# EAGLE library part STM32F4-100 (library apbteam_stm32)
STM32F4, 100 pin package According to STM32F40x datasheet, almost compatible with STM32F4xx, STM32F2xx, some pins must be connected differently, see chapter 2.1.
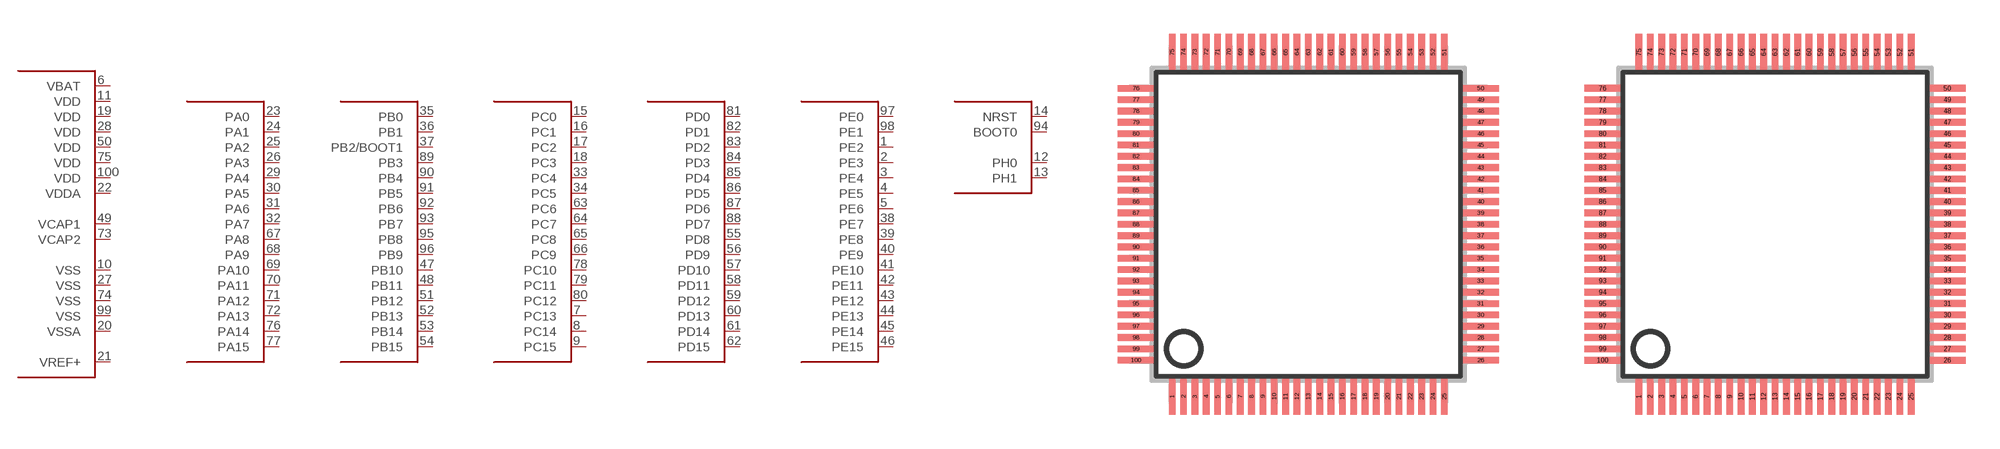
[diagram p1: symbol with the pads of SQFP-S-14X14-100-8MIL; footprints SQFP-S-14X14-100-8MIL, SQFP-S-14X14-100]

Designator prefix U; gates G$1=STM32-SUPPLY-100 G$2=STM32-PORTA G$3=STM32-PORTB G$4=STM32-PORTC G$5=STM32-PORTD G$6=STM32-PORTE G$7=STM32-MISC-100

## STM32F4-100-8MIL  [SQFP-S-14X14-100-8MIL]
1  G$6:PE2
2  G$6:PE3
3  G$6:PE4
4  G$6:PE5
5  G$6:PE6
6  G$1:VBAT  pwr
7  G$4:PC13
8  G$4:PC14
9  G$4:PC15
10  G$1:VSS  pwr
11  G$1:VDD  pwr
12  G$7:PH0
13  G$7:PH1
14  G$7:NRST
15  G$4:PC0
16  G$4:PC1
17  G$4:PC2
18  G$4:PC3
19  G$1:VDD  pwr
20  G$1:VSSA  pwr
21  G$1:VREF+  pas
22  G$1:VDDA  pwr
23  G$2:PA0
24  G$2:PA1
25  G$2:PA2
26  G$2:PA3
27  G$1:VSS  pwr
28  G$1:VDD  pwr
29  G$2:PA4
30  G$2:PA5
31  G$2:PA6
32  G$2:PA7
33  G$4:PC4
34  G$4:PC5
35  G$3:PB0
36  G$3:PB1
37  G$3:PB2/BOOT1
38  G$6:PE7
39  G$6:PE8
40  G$6:PE9
41  G$6:PE10
42  G$6:PE11
43  G$6:PE12
44  G$6:PE13
45  G$6:PE14
46  G$6:PE15
47  G$3:PB10
48  G$3:PB11
49  G$1:VCAP1  pas
50  G$1:VDD  pwr
51  G$3:PB12
52  G$3:PB13
53  G$3:PB14
54  G$3:PB15
55  G$5:PD8
56  G$5:PD9
57  G$5:PD10
58  G$5:PD11
59  G$5:PD12
60  G$5:PD13
61  G$5:PD14
62  G$5:PD15
63  G$4:PC6
64  G$4:PC7
65  G$4:PC8
66  G$4:PC9
67  G$2:PA8
68  G$2:PA9
69  G$2:PA10
70  G$2:PA11
71  G$2:PA12
72  G$2:PA13
73  G$1:VCAP2  pas
74  G$1:VSS  pwr
75  G$1:VDD  pwr
76  G$2:PA14
77  G$2:PA15
78  G$4:PC10
79  G$4:PC11
80  G$4:PC12
81  G$5:PD0
82  G$5:PD1
83  G$5:PD2
84  G$5:PD3
85  G$5:PD4
86  G$5:PD5
87  G$5:PD6
88  G$5:PD7
89  G$3:PB3
90  G$3:PB4
91  G$3:PB5
92  G$3:PB6
93  G$3:PB7
94  G$7:BOOT0
95  G$3:PB8
96  G$3:PB9
97  G$6:PE0
98  G$6:PE1
99  G$1:VSS  pwr
100  G$1:VDD  pwr

## STM32F4-100  [SQFP-S-14X14-100]
Pads as for SQFP-S-14X14-100-8MIL

## Footprint SQFP-S-14X14-100-8MIL (pad centres in mm)
QFP100 @8mils shrink quad flat pack, square, modified for 8 mil DRC.
smd 0.295 x 1.6: 1 -6,-7.6; 2 -5.5,-7.6; 3 -5,-7.6; 4 -4.5,-7.6; 5 -4,-7.6; 6 -3.5,-7.6; 7 -3,-7.6; 8 -2.5,-7.6; 9 -2,-7.6; 10 -1.5,-7.6; 11 -1,-7.6; 12 -0.5,-7.6; 13 0,-7.6; 14 0.5,-7.6; 15 1,-7.6; 16 1.5,-7.6; 17 2,-7.6; 18 2.5,-7.6; 19 3,-7.6; 20 3.5,-7.6; 21 4,-7.6; 22 4.5,-7.6; 23 5,-7.6; 24 5.5,-7.6; 25 6,-7.6; 51 6,7.6; 52 5.5,7.6; 53 5,7.6; 54 4.5,7.6; 55 4,7.6; 56 3.5,7.6; 57 3,7.6; 58 2.5,7.6; 59 2,7.6; 60 1.5,7.6; 61 1,7.6; 62 0.5,7.6; 63 0,7.6; 64 -0.5,7.6; 65 -1,7.6; 66 -1.5,7.6; 67 -2,7.6; 68 -2.5,7.6; 69 -3,7.6; 70 -3.5,7.6; 71 -4,7.6; 72 -4.5,7.6; 73 -5,7.6; 74 -5.5,7.6; 75 -6,7.6
smd 1.6 x 0.295: 26 7.6,-6; 27 7.6,-5.5; 28 7.6,-5; 29 7.6,-4.5; 30 7.6,-4; 31 7.6,-3.5; 32 7.6,-3; 33 7.6,-2.5; 34 7.6,-2; 35 7.6,-1.5; 36 7.6,-1; 37 7.6,-0.5; 38 7.6,0; 39 7.6,0.5; 40 7.6,1; 41 7.6,1.5; 42 7.6,2; 43 7.6,2.5; 44 7.6,3; 45 7.6,3.5; 46 7.6,4; 47 7.6,4.5; 48 7.6,5; 49 7.6,5.5; 50 7.6,6; 76 -7.6,6; 77 -7.6,5.5; 78 -7.6,5; 79 -7.6,4.5; 80 -7.6,4; 81 -7.6,3.5; 82 -7.6,3; 83 -7.6,2.5; 84 -7.6,2; 85 -7.6,1.5; 86 -7.6,1; 87 -7.6,0.5; 88 -7.6,0; 89 -7.6,-0.5; 90 -7.6,-1; 91 -7.6,-1.5; 92 -7.6,-2; 93 -7.6,-2.5; 94 -7.6,-3; 95 -7.6,-3.5; 96 -7.6,-4; 97 -7.6,-4.5; 98 -7.6,-5; 99 -7.6,-5.5; 100 -7.6,-6

## Footprint SQFP-S-14X14-100 (pad centres in mm)
QFP100 shrink quad flat pack, square
smd 0.3 x 1.6: 1 -6,-7.6; 2 -5.5,-7.6; 3 -5,-7.6; 4 -4.5,-7.6; 5 -4,-7.6; 6 -3.5,-7.6; 7 -3,-7.6; 8 -2.5,-7.6; 9 -2,-7.6; 10 -1.5,-7.6; 11 -1,-7.6; 12 -0.5,-7.6; 13 0,-7.6; 14 0.5,-7.6; 15 1,-7.6; 16 1.5,-7.6; 17 2,-7.6; 18 2.5,-7.6; 19 3,-7.6; 20 3.5,-7.6; 21 4,-7.6; 22 4.5,-7.6; 23 5,-7.6; 24 5.5,-7.6; 25 6,-7.6; 51 6,7.6; 52 5.5,7.6; 53 5,7.6; 54 4.5,7.6; 55 4,7.6; 56 3.5,7.6; 57 3,7.6; 58 2.5,7.6; 59 2,7.6; 60 1.5,7.6; 61 1,7.6; 62 0.5,7.6; 63 0,7.6; 64 -0.5,7.6; 65 -1,7.6; 66 -1.5,7.6; 67 -2,7.6; 68 -2.5,7.6; 69 -3,7.6; 70 -3.5,7.6; 71 -4,7.6; 72 -4.5,7.6; 73 -5,7.6; 74 -5.5,7.6; 75 -6,7.6
smd 1.6 x 0.3: 26 7.6,-6; 27 7.6,-5.5; 28 7.6,-5; 29 7.6,-4.5; 30 7.6,-4; 31 7.6,-3.5; 32 7.6,-3; 33 7.6,-2.5; 34 7.6,-2; 35 7.6,-1.5; 36 7.6,-1; 37 7.6,-0.5; 38 7.6,0; 39 7.6,0.5; 40 7.6,1; 41 7.6,1.5; 42 7.6,2; 43 7.6,2.5; 44 7.6,3; 45 7.6,3.5; 46 7.6,4; 47 7.6,4.5; 48 7.6,5; 49 7.6,5.5; 50 7.6,6; 76 -7.6,6; 77 -7.6,5.5; 78 -7.6,5; 79 -7.6,4.5; 80 -7.6,4; 81 -7.6,3.5; 82 -7.6,3; 83 -7.6,2.5; 84 -7.6,2; 85 -7.6,1.5; 86 -7.6,1; 87 -7.6,0.5; 88 -7.6,0; 89 -7.6,-0.5; 90 -7.6,-1; 91 -7.6,-1.5; 92 -7.6,-2; 93 -7.6,-2.5; 94 -7.6,-3; 95 -7.6,-3.5; 96 -7.6,-4; 97 -7.6,-4.5; 98 -7.6,-5; 99 -7.6,-5.5; 100 -7.6,-6